# EAGLE library part QFP (library mylib)
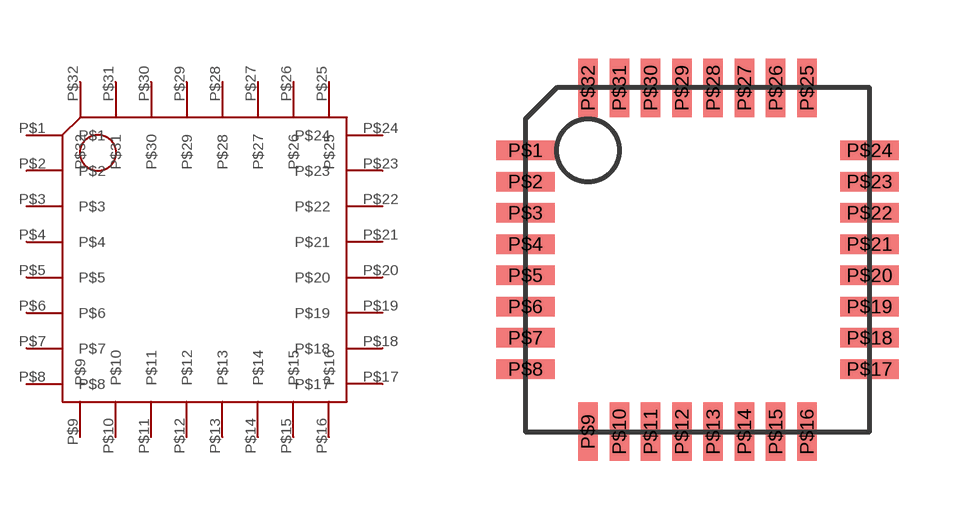
[diagram p6: symbol with the pads of QFP; footprint QFP]

Designator prefix -

## QFP  [QFP]
P$1  P$1
P$2  P$2
P$3  P$3
P$4  P$4
P$5  P$5
P$6  P$6
P$7  P$7
P$8  P$8
P$9  P$9
P$10  P$10
P$11  P$11
P$12  P$12
P$13  P$13
P$14  P$14
P$15  P$15
P$16  P$16
P$17  P$17
P$18  P$18
P$19  P$19
P$20  P$20
P$21  P$21
P$22  P$22
P$23  P$23
P$24  P$24
P$25  P$25
P$26  P$26
P$27  P$27
P$28  P$28
P$29  P$29
P$30  P$30
P$31  P$31
P$32  P$32

## Footprint QFP (pad centres in mm)
smd 1.5 x 0.5: P$1 -4.8,3.2; P$2 -4.8,2.4; P$3 -4.8,1.6; P$4 -4.8,0.8; P$5 -4.8,0; P$6 -4.8,-0.8; P$7 -4.8,-1.6; P$8 -4.8,-2.4; P$17 4,-2.4; P$18 4,-1.6; P$19 4,-0.8; P$20 4,0; P$21 4,0.8; P$22 4,1.6; P$23 4,2.4; P$24 4,3.2
smd 0.5 x 1.5: P$9 -3.2,-4; P$10 -2.4,-4; P$11 -1.6,-4; P$12 -0.8,-4; P$13 0,-4; P$14 0.8,-4; P$15 1.6,-4; P$16 2.4,-4; P$25 2.4,4.8; P$26 1.6,4.8; P$27 0.8,4.8; P$28 0,4.8; P$29 -0.8,4.8; P$30 -1.6,4.8; P$31 -2.4,4.8; P$32 -3.2,4.8